# Altium integrated library Resistor - Current Sense.IntLib: 810 symbols (part 1 of 12)
Pins are listed as number, name and electrical type; pins without a type are passive.

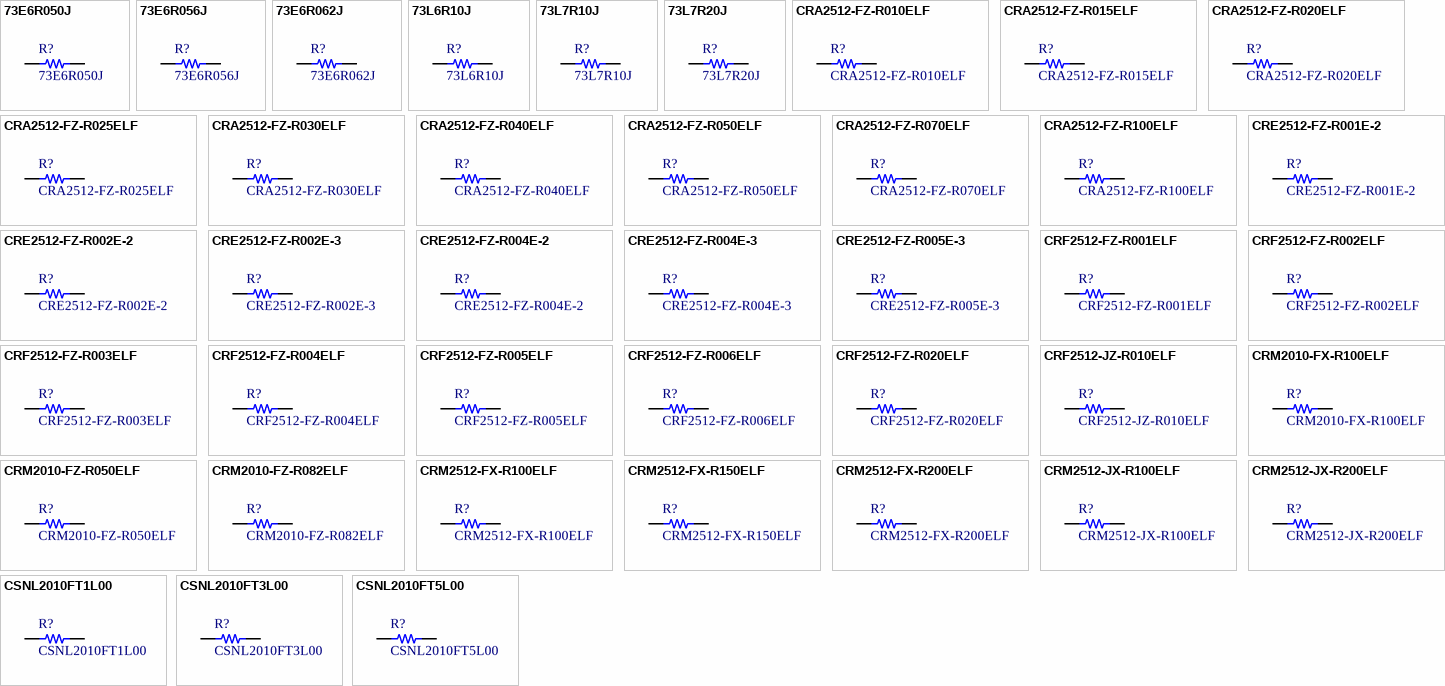
[diagram p0: symbols 73E6R050J to CSNL2010FT5L00]

## 73E6R050J
designator R?
RES SMD 0.05 OHM 5% 1W 2010; Manufacturer: CTS Resistor Products; Value: 0.05; TemperatureRange: -55C ~ 125C; TemperatureCoefficient: 100ppm/C; Part Number: 73E6R050J; PartId: 21533; Supplier 1: Digi-Key; Supplier Part Number 1: 73E6R050JTR-ND; ComponentLink1Description: Datasheet; ComponentLink1URL: http://www.ctscorp.com/wp-content/uploads/2015/11/008-0337-0.pdf; ComponentLink2Description: Digi-Key Listing; ComponentLink2URL: https://www.digikey.com/product-detail/en/cts-resistor-products/73E6R050J/73E6R050JTR-ND/1543434; Tolerance: 5%; PowerRating: 1W; Price: 0.1247; Device Package: 2010 (5025 Metric)
footprint STACKPOLE CSR2010
pins: 1, 2

## 73E6R056J
designator R?
RES SMD 0.056 OHM 5% 1W 2010; Manufacturer: CTS Resistor Products; Value: 0.056; TemperatureRange: -55C ~ 125C; TemperatureCoefficient: 100ppm/C; Part Number: 73E6R056J; PartId: 21535; Supplier 1: Digi-Key; Supplier Part Number 1: 73E6R056JTR-ND; ComponentLink1Description: Datasheet; ComponentLink1URL: http://www.ctscorp.com/wp-content/uploads/2015/11/008-0337-0.pdf; ComponentLink2Description: Digi-Key Listing; ComponentLink2URL: https://www.digikey.com/product-detail/en/cts-resistor-products/73E6R056J/73E6R056JTR-ND/1543435; Tolerance: 5%; PowerRating: 1W; Price: 0.1247; Device Package: 2010 (5025 Metric)
footprint STACKPOLE CSR2010
pins: 1, 2

## 73E6R062J
designator R?
RES SMD 0.062 OHM 5% 1W 2010; Manufacturer: CTS Resistor Products; Value: 0.062; TemperatureRange: -55C ~ 125C; TemperatureCoefficient: 100ppm/C; Part Number: 73E6R062J; PartId: 21534; Supplier 1: Digi-Key; Supplier Part Number 1: 73E6R062JTR-ND; ComponentLink1Description: Datasheet; ComponentLink1URL: http://www.ctscorp.com/wp-content/uploads/2015/11/008-0337-0.pdf; ComponentLink2Description: Digi-Key Listing; ComponentLink2URL: https://www.digikey.com/product-detail/en/cts-resistor-products/73E6R062J/73E6R062JTR-ND/1543436; Tolerance: 5%; PowerRating: 1W; Price: 0.1247; Device Package: 2010 (5025 Metric)
footprint STACKPOLE CSR2010
pins: 1, 2

## 73L6R10J
designator R?
RES SMD 0.1 OHM 5% 3/4W 2010; Manufacturer: CTS Resistor Products; Value: 0.1; TemperatureRange: -55C ~ 125C; TemperatureCoefficient: 200ppm/C; PowerRating: 0.75W, 3/4W; Part Number: 73L6R10J; PartId: 21519; Supplier 1: Digi-Key; Supplier Part Number 1: 73L6R10JTR-ND; ComponentLink1Description: Datasheet; ComponentLink1URL: http://www.ctscorp.com/wp-content/uploads/2015/11/008-0337-0.pdf; ComponentLink2Description: Digi-Key Listing; ComponentLink2URL: https://www.digikey.com/product-detail/en/cts-resistor-products/73L6R10J/73L6R10JTR-ND/1543447; Tolerance: 5%; Price: 0.0326; Device Package: 2010 (5025 Metric)
footprint STACKPOLE CSR2010
pins: 1, 2

## 73L7R10J
designator R?
RES SMD 0.1 OHM 5% 1W 2512; Manufacturer: CTS Resistor Products; Value: 0.1; TemperatureRange: -55C ~ 125C; TemperatureCoefficient: 200ppm/C; Part Number: 73L7R10J; PartId: 21208; Supplier 1: Digi-Key; Supplier Part Number 1: 73L7R10JTR-ND; ComponentLink1Description: Datasheet; ComponentLink1URL: http://www.ctscorp.com/wp-content/uploads/2015/11/008-0337-0.pdf; ComponentLink2Description: Digi-Key Listing; ComponentLink2URL: https://www.digikey.com/product-detail/en/cts-resistor-products/73L7R10J/73L7R10JTR-ND/1543442; Tolerance: 5%; PowerRating: 1W; Price: 0.0589; Device Package: 2512 (6432 Metric)
footprint STACKPOLE CSR2512
pins: 1, 2

## 73L7R20J
designator R?
RES SMD 0.2 OHM 5% 1W 2512; Manufacturer: CTS Resistor Products; Value: 0.2; TemperatureRange: -55C ~ 125C; TemperatureCoefficient: 200ppm/C; Part Number: 73L7R20J; PartId: 21209; Supplier 1: Digi-Key; Supplier Part Number 1: 73L7R20JTR-ND; ComponentLink1Description: Datasheet; ComponentLink1URL: http://www.ctscorp.com/wp-content/uploads/2015/11/008-0337-0.pdf; ComponentLink2Description: Digi-Key Listing; ComponentLink2URL: https://www.digikey.com/product-detail/en/cts-resistor-products/73L7R20J/73L7R20JTR-ND/1543443; Tolerance: 5%; PowerRating: 1W; Price: 0.0589; Device Package: 2512 (6432 Metric)
footprint STACKPOLE CSR2512
pins: 1, 2

## CRA2512-FZ-R010ELF
designator R?
RES SMD 0.01 OHM 1% 3W 2512; Manufacturer: Bourns Inc.; Value: 0.01; TemperatureRange: -55C ~ 170C; TemperatureCoefficient: 75ppm/C; Part Number: CRA2512-FZ-R010ELF; PartId: 21351; Supplier 1: Digi-Key; Supplier Part Number 1: CRA2512-FZ-R010ELFTR-ND; ComponentLink1Description: Datasheet; ComponentLink1URL: http://www.bourns.com/docs/Product-Datasheets/CRA.pdf; ComponentLink2Description: Digi-Key Listing; ComponentLink2URL: https://www.digikey.com/product-detail/en/bourns-inc/CRA2512-FZ-R010ELF/CRA2512-FZ-R010ELFTR-ND/1775029; Tolerance: 1%; PowerRating: 3W; Price: 0.1729; Device Package: 2512 (6432 Metric)
footprint STACKPOLE CSR2512
pins: 1, 2

## CRA2512-FZ-R015ELF
designator R?
RES SMD 0.015 OHM 1% 3W 2512; Manufacturer: Bourns Inc.; Value: 0.015; TemperatureRange: -55C ~ 170C; TemperatureCoefficient: 75ppm/C; Part Number: CRA2512-FZ-R015ELF; PartId: 21358; Supplier 1: Digi-Key; Supplier Part Number 1: CRA2512-FZ-R015ELFTR-ND; ComponentLink1Description: Datasheet; ComponentLink1URL: http://www.bourns.com/docs/Product-Datasheets/CRA.pdf; ComponentLink2Description: Digi-Key Listing; ComponentLink2URL: https://www.digikey.com/product-detail/en/bourns-inc/CRA2512-FZ-R015ELF/CRA2512-FZ-R015ELFTR-ND/2563864; Tolerance: 1%; PowerRating: 3W; Price: 0.1729; Device Package: 2512 (6432 Metric)
footprint STACKPOLE CSR2512
pins: 1, 2

## CRA2512-FZ-R020ELF
designator R?
RES SMD 0.02 OHM 1% 3W 2512; Manufacturer: Bourns Inc.; Value: 0.02; TemperatureRange: -55C ~ 170C; TemperatureCoefficient: 75ppm/C; Part Number: CRA2512-FZ-R020ELF; PartId: 21354; Supplier 1: Digi-Key; Supplier Part Number 1: CRA2512-FZ-R020ELFTR-ND; ComponentLink1Description: Datasheet; ComponentLink1URL: http://www.bourns.com/docs/Product-Datasheets/CRA.pdf; ComponentLink2Description: Digi-Key Listing; ComponentLink2URL: https://www.digikey.com/product-detail/en/bourns-inc/CRA2512-FZ-R020ELF/CRA2512-FZ-R020ELFTR-ND/1775030; Tolerance: 1%; PowerRating: 3W; Price: 0.1729; Device Package: 2512 (6432 Metric)
footprint STACKPOLE CSR2512
pins: 1, 2

## CRA2512-FZ-R025ELF
designator R?
RES SMD 0.025 OHM 1% 3W 2512; Manufacturer: Bourns Inc.; Value: 0.025; TemperatureRange: -55C ~ 170C; TemperatureCoefficient: 75ppm/C; Part Number: CRA2512-FZ-R025ELF; PartId: 21350; Supplier 1: Digi-Key; Supplier Part Number 1: CRA2512-FZ-R025ELFTR-ND; ComponentLink1Description: Datasheet; ComponentLink1URL: http://www.bourns.com/docs/Product-Datasheets/CRA.pdf; ComponentLink2Description: Digi-Key Listing; ComponentLink2URL: https://www.digikey.com/product-detail/en/bourns-inc/CRA2512-FZ-R025ELF/CRA2512-FZ-R025ELFTR-ND/2563866; Tolerance: 1%; PowerRating: 3W; Price: 0.1729; Device Package: 2512 (6432 Metric)
footprint STACKPOLE CSR2512
pins: 1, 2

## CRA2512-FZ-R030ELF
designator R?
RES SMD 0.03 OHM 1% 3W 2512; Manufacturer: Bourns Inc.; Value: 0.03; TemperatureRange: -55C ~ 170C; TemperatureCoefficient: 75ppm/C; Part Number: CRA2512-FZ-R030ELF; PartId: 21352; Supplier 1: Digi-Key; Supplier Part Number 1: CRA2512-FZ-R030ELFTR-ND; ComponentLink1Description: Datasheet; ComponentLink1URL: http://www.bourns.com/docs/Product-Datasheets/CRA.pdf; ComponentLink2Description: Digi-Key Listing; ComponentLink2URL: https://www.digikey.com/product-detail/en/bourns-inc/CRA2512-FZ-R030ELF/CRA2512-FZ-R030ELFTR-ND/2563867; Tolerance: 1%; PowerRating: 3W; Price: 0.1729; Device Package: 2512 (6432 Metric)
footprint STACKPOLE CSR2512
pins: 1, 2

## CRA2512-FZ-R040ELF
designator R?
RES SMD 0.04 OHM 1% 3W 2512; Manufacturer: Bourns Inc.; Value: 0.04; TemperatureRange: -55C ~ 170C; TemperatureCoefficient: 75ppm/C; Part Number: CRA2512-FZ-R040ELF; PartId: 21353; Supplier 1: Digi-Key; Supplier Part Number 1: CRA2512-FZ-R040ELFTR-ND; ComponentLink1Description: Datasheet; ComponentLink1URL: http://www.bourns.com/docs/Product-Datasheets/CRA.pdf; ComponentLink2Description: Digi-Key Listing; ComponentLink2URL: https://www.digikey.com/product-detail/en/bourns-inc/CRA2512-FZ-R040ELF/CRA2512-FZ-R040ELFTR-ND/1775031; Tolerance: 1%; PowerRating: 3W; Price: 0.1729; Device Package: 2512 (6432 Metric)
footprint STACKPOLE CSR2512
pins: 1, 2

## CRA2512-FZ-R050ELF
designator R?
RES SMD 0.05 OHM 1% 3W 2512; Manufacturer: Bourns Inc.; Value: 0.05; TemperatureRange: -55C ~ 170C; TemperatureCoefficient: 75ppm/C; Part Number: CRA2512-FZ-R050ELF; PartId: 21348; Supplier 1: Digi-Key; Supplier Part Number 1: CRA2512-FZ-R050ELFTR-ND; ComponentLink1Description: Datasheet; ComponentLink1URL: http://www.bourns.com/docs/Product-Datasheets/CRA.pdf; ComponentLink2Description: Digi-Key Listing; ComponentLink2URL: https://www.digikey.com/product-detail/en/bourns-inc/CRA2512-FZ-R050ELF/CRA2512-FZ-R050ELFTR-ND/1775032; Tolerance: 1%; PowerRating: 3W; Price: 0.1729; Device Package: 2512 (6432 Metric)
footprint STACKPOLE CSR2512
pins: 1, 2

## CRA2512-FZ-R070ELF
designator R?
RES SMD 0.07 OHM 1% 3W 2512; Manufacturer: Bourns Inc.; Value: 0.07; TemperatureRange: -55C ~ 170C; TemperatureCoefficient: 75ppm/C; Part Number: CRA2512-FZ-R070ELF; PartId: 21355; Supplier 1: Digi-Key; Supplier Part Number 1: CRA2512-FZ-R070ELFTR-ND; ComponentLink1Description: Datasheet; ComponentLink1URL: http://www.bourns.com/docs/Product-Datasheets/CRA.pdf; ComponentLink2Description: Digi-Key Listing; ComponentLink2URL: https://www.digikey.com/product-detail/en/bourns-inc/CRA2512-FZ-R070ELF/CRA2512-FZ-R070ELFTR-ND/2563873; Tolerance: 1%; PowerRating: 3W; Price: 0.1729; Device Package: 2512 (6432 Metric)
footprint STACKPOLE CSR2512
pins: 1, 2

## CRA2512-FZ-R100ELF
designator R?
RES SMD 0.1 OHM 1% 3W 2512; Manufacturer: Bourns Inc.; Value: 0.1; TemperatureRange: -55C ~ 170C; TemperatureCoefficient: 75ppm/C; Part Number: CRA2512-FZ-R100ELF; PartId: 21349; Supplier 1: Digi-Key; Supplier Part Number 1: CRA2512-FZ-R100ELFTR-ND; ComponentLink1Description: Datasheet; ComponentLink1URL: http://www.bourns.com/docs/Product-Datasheets/CRA.pdf; ComponentLink2Description: Digi-Key Listing; ComponentLink2URL: https://www.digikey.com/product-detail/en/bourns-inc/CRA2512-FZ-R100ELF/CRA2512-FZ-R100ELFTR-ND/1775034; Tolerance: 1%; PowerRating: 3W; Price: 0.1729; Device Package: 2512 (6432 Metric)
footprint STACKPOLE CSR2512
pins: 1, 2

## CRE2512-FZ-R001E-2
designator R?
RES SMD 0.001 OHM 1% 2W 2512; Manufacturer: Bourns Inc.; Value: 0.001; TemperatureRange: -55C ~ 170C; TemperatureCoefficient: 75ppm/C; Part Number: CRE2512-FZ-R001E-2; PartId: 21366; Supplier 1: Digi-Key; Supplier Part Number 1: CRE2512-FZ-R001E-2TR-ND; ComponentLink1Description: Datasheet; ComponentLink1URL: http://www.bourns.com/docs/Product-Datasheets/CRE.pdf; ComponentLink2Description: Digi-Key Listing; ComponentLink2URL: https://www.digikey.com/product-detail/en/bourns-inc/CRE2512-FZ-R001E-2/CRE2512-FZ-R001E-2TR-ND/4900070; Tolerance: 1%; PowerRating: 2W; Price: 0.1729; Device Package: 2512 (6432 Metric)
footprint STACKPOLE CSR2512
pins: 1, 2

## CRE2512-FZ-R002E-2
designator R?
RES SMD 0.002 OHM 1% 2W 2512; Manufacturer: Bourns Inc.; Value: 0.002; TemperatureRange: -55C ~ 170C; TemperatureCoefficient: 75ppm/C; Part Number: CRE2512-FZ-R002E-2; PartId: 21367; Supplier 1: Digi-Key; Supplier Part Number 1: CRE2512-FZ-R002E-2TR-ND; ComponentLink1Description: Datasheet; ComponentLink1URL: http://www.bourns.com/docs/Product-Datasheets/CRE.pdf; ComponentLink2Description: Digi-Key Listing; ComponentLink2URL: https://www.digikey.com/product-detail/en/bourns-inc/CRE2512-FZ-R002E-2/CRE2512-FZ-R002E-2TR-ND/4900068; Tolerance: 1%; PowerRating: 2W; Price: 0.1729; Device Package: 2512 (6432 Metric)
footprint STACKPOLE CSR2512
pins: 1, 2

## CRE2512-FZ-R002E-3
designator R?
RES SMD 0.002 OHM 1% 3W 2512; Manufacturer: Bourns Inc.; Value: 0.002; TemperatureRange: -55C ~ 170C; TemperatureCoefficient: 75ppm/C; Part Number: CRE2512-FZ-R002E-3; PartId: 21395; Supplier 1: Digi-Key; Supplier Part Number 1: CRE2512-FZ-R002E-3TR-ND; ComponentLink1Description: Datasheet; ComponentLink1URL: http://www.bourns.com/docs/Product-Datasheets/CRE.pdf; ComponentLink2Description: Digi-Key Listing; ComponentLink2URL: https://www.digikey.com/product-detail/en/bourns-inc/CRE2512-FZ-R002E-3/CRE2512-FZ-R002E-3TR-ND/4900067; Tolerance: 1%; PowerRating: 3W; Price: 0.1795; Device Package: 2512 (6432 Metric)
footprint STACKPOLE CSR2512
pins: 1, 2

## CRE2512-FZ-R004E-2
designator R?
RES SMD 0.004 OHM 1% 2W 2512; Manufacturer: Bourns Inc.; Value: 0.004; TemperatureRange: -55C ~ 170C; TemperatureCoefficient: 75ppm/C; Part Number: CRE2512-FZ-R004E-2; PartId: 21368; Supplier 1: Digi-Key; Supplier Part Number 1: CRE2512-FZ-R004E-2TR-ND; ComponentLink1Description: Datasheet; ComponentLink1URL: http://www.bourns.com/docs/Product-Datasheets/CRE.pdf; ComponentLink2Description: Digi-Key Listing; ComponentLink2URL: https://www.digikey.com/product-detail/en/bourns-inc/CRE2512-FZ-R004E-2/CRE2512-FZ-R004E-2TR-ND/4900064; Tolerance: 1%; PowerRating: 2W; Price: 0.1729; Device Package: 2512 (6432 Metric)
footprint STACKPOLE CSR2512
pins: 1, 2

## CRE2512-FZ-R004E-3
designator R?
RES SMD 0.004 OHM 1% 3W 2512; Manufacturer: Bourns Inc.; Value: 0.004; TemperatureRange: -55C ~ 170C; TemperatureCoefficient: 75ppm/C; Part Number: CRE2512-FZ-R004E-3; PartId: 21393; Supplier 1: Digi-Key; Supplier Part Number 1: CRE2512-FZ-R004E-3TR-ND; ComponentLink1Description: Datasheet; ComponentLink1URL: http://www.bourns.com/docs/Product-Datasheets/CRE.pdf; ComponentLink2Description: Digi-Key Listing; ComponentLink2URL: https://www.digikey.com/product-detail/en/bourns-inc/CRE2512-FZ-R004E-3/CRE2512-FZ-R004E-3TR-ND/4900063; Tolerance: 1%; PowerRating: 3W; Price: 0.1795; Device Package: 2512 (6432 Metric)
footprint STACKPOLE CSR2512
pins: 1, 2

## CRE2512-FZ-R005E-3
designator R?
RES SMD 0.005 OHM 1% 3W 2512; Manufacturer: Bourns Inc.; Value: 0.005; TemperatureRange: -55C ~ 170C; TemperatureCoefficient: 75ppm/C; Part Number: CRE2512-FZ-R005E-3; PartId: 21394; Supplier 1: Digi-Key; Supplier Part Number 1: CRE2512-FZ-R005E-3TR-ND; ComponentLink1Description: Datasheet; ComponentLink1URL: http://www.bourns.com/docs/Product-Datasheets/CRE.pdf; ComponentLink2Description: Digi-Key Listing; ComponentLink2URL: https://www.digikey.com/product-detail/en/bourns-inc/CRE2512-FZ-R005E-3/CRE2512-FZ-R005E-3TR-ND/4900061; Tolerance: 1%; PowerRating: 3W; Price: 0.1795; Device Package: 2512 (6432 Metric)
footprint STACKPOLE CSR2512
pins: 1, 2

## CRF2512-FZ-R001ELF
designator R?
RES SMD 0.001 OHM 1% 2W 2512; Manufacturer: Bourns Inc.; Value: 0.001; TemperatureRange: -55C ~ 170C; TemperatureCoefficient: 50ppm/C; Part Number: CRF2512-FZ-R001ELF; PartId: 21430; Supplier 1: Digi-Key; Supplier Part Number 1: CRF2512-FZ-R001ELFTR-ND; ComponentLink1Description: Datasheet; ComponentLink1URL: http://www.bourns.com/docs/Product-Datasheets/CRF.pdf; ComponentLink2Description: Digi-Key Listing; ComponentLink2URL: https://www.digikey.com/product-detail/en/bourns-inc/CRF2512-FZ-R001ELF/CRF2512-FZ-R001ELFTR-ND/6210982; Tolerance: 1%; PowerRating: 2W; Price: 0.2584; Device Package: 2512 (6432 Metric)
footprint STACKPOLE CSR2512
pins: 1, 2

## CRF2512-FZ-R002ELF
designator R?
RES SMD 0.002 OHM 1% 2W 2512; Manufacturer: Bourns Inc.; Value: 0.002; TemperatureRange: -55C ~ 170C; TemperatureCoefficient: 50ppm/C; Part Number: CRF2512-FZ-R002ELF; PartId: 21433; Supplier 1: Digi-Key; Supplier Part Number 1: CRF2512-FZ-R002ELFTR-ND; ComponentLink1Description: Datasheet; ComponentLink1URL: http://www.bourns.com/docs/Product-Datasheets/CRF.pdf; ComponentLink2Description: Digi-Key Listing; ComponentLink2URL: https://www.digikey.com/product-detail/en/bourns-inc/CRF2512-FZ-R002ELF/CRF2512-FZ-R002ELFTR-ND/6210983; Tolerance: 1%; PowerRating: 2W; Price: 0.2584; Device Package: 2512 (6432 Metric)
footprint STACKPOLE CSR2512
pins: 1, 2

## CRF2512-FZ-R003ELF
designator R?
RES SMD 0.003 OHM 1% 2W 2512; Manufacturer: Bourns Inc.; Value: 0.003; TemperatureRange: -55C ~ 170C; TemperatureCoefficient: 50ppm/C; Part Number: CRF2512-FZ-R003ELF; PartId: 21431; Supplier 1: Digi-Key; Supplier Part Number 1: CRF2512-FZ-R003ELFTR-ND; ComponentLink1Description: Datasheet; ComponentLink1URL: http://www.bourns.com/docs/Product-Datasheets/CRF.pdf; ComponentLink2Description: Digi-Key Listing; ComponentLink2URL: https://www.digikey.com/product-detail/en/bourns-inc/CRF2512-FZ-R003ELF/CRF2512-FZ-R003ELFTR-ND/6210984; Tolerance: 1%; PowerRating: 2W; Price: 0.2584; Device Package: 2512 (6432 Metric)
footprint STACKPOLE CSR2512
pins: 1, 2

## CRF2512-FZ-R004ELF
designator R?
RES SMD 0.004 OHM 1% 2W 2512; Manufacturer: Bourns Inc.; Value: 0.004; TemperatureRange: -55C ~ 170C; TemperatureCoefficient: 50ppm/C; Part Number: CRF2512-FZ-R004ELF; PartId: 21432; Supplier 1: Digi-Key; Supplier Part Number 1: CRF2512-FZ-R004ELFTR-ND; ComponentLink1Description: Datasheet; ComponentLink1URL: http://www.bourns.com/docs/Product-Datasheets/CRF.pdf; ComponentLink2Description: Digi-Key Listing; ComponentLink2URL: https://www.digikey.com/product-detail/en/bourns-inc/CRF2512-FZ-R004ELF/CRF2512-FZ-R004ELFTR-ND/6210985; Tolerance: 1%; PowerRating: 2W; Price: 0.2584; Device Package: 2512 (6432 Metric)
footprint STACKPOLE CSR2512
pins: 1, 2

## CRF2512-FZ-R005ELF
designator R?
RES SMD 0.005 OHM 1% 2W 2512; Manufacturer: Bourns Inc.; Value: 0.005; TemperatureRange: -55C ~ 170C; TemperatureCoefficient: 50ppm/C; Part Number: CRF2512-FZ-R005ELF; PartId: 21434; Supplier 1: Digi-Key; Supplier Part Number 1: CRF2512-FZ-R005ELFTR-ND; ComponentLink1Description: Datasheet; ComponentLink1URL: http://www.bourns.com/docs/Product-Datasheets/CRF.pdf; ComponentLink2Description: Digi-Key Listing; ComponentLink2URL: https://www.digikey.com/product-detail/en/bourns-inc/CRF2512-FZ-R005ELF/CRF2512-FZ-R005ELFTR-ND/6210986; Tolerance: 1%; PowerRating: 2W; Price: 0.2584; Device Package: 2512 (6432 Metric)
footprint STACKPOLE CSR2512
pins: 1, 2

## CRF2512-FZ-R006ELF
designator R?
RES SMD 0.006 OHM 1% 2W 2512; Manufacturer: Bourns Inc.; Value: 0.006; TemperatureRange: -55C ~ 170C; TemperatureCoefficient: 50ppm/C; Part Number: CRF2512-FZ-R006ELF; PartId: 21435; Supplier 1: Digi-Key; Supplier Part Number 1: CRF2512-FZ-R006ELFTR-ND; ComponentLink1Description: Datasheet; ComponentLink1URL: http://www.bourns.com/docs/Product-Datasheets/CRF.pdf; ComponentLink2Description: Digi-Key Listing; ComponentLink2URL: https://www.digikey.com/product-detail/en/bourns-inc/CRF2512-FZ-R006ELF/CRF2512-FZ-R006ELFTR-ND/6210987; Tolerance: 1%; PowerRating: 2W; Price: 0.2584; Device Package: 2512 (6432 Metric)
footprint STACKPOLE CSR2512
pins: 1, 2

## CRF2512-FZ-R020ELF
designator R?
RES SMD 0.02 OHM 1% 1W 2512; Manufacturer: Bourns Inc.; Value: 0.02; TemperatureRange: -55C ~ 170C; TemperatureCoefficient: 50ppm/C; PowerRating: 2W; Part Number: CRF2512-FZ-R020ELF; PartId: 21429; Supplier 1: Digi-Key; Supplier Part Number 1: CRF2512-FZ-R020ELFTR-ND; ComponentLink1Description: Datasheet; ComponentLink1URL: http://www.bourns.com/docs/Product-Datasheets/CRF.pdf; ComponentLink2Description: Digi-Key Listing; ComponentLink2URL: https://www.digikey.com/product-detail/en/bourns-inc/CRF2512-FZ-R020ELF/CRF2512-FZ-R020ELFTR-ND/3593288; Tolerance: 1%; Price: 0.2498; Device Package: 2512 (6432 Metric)
footprint STACKPOLE CSR2512
pins: 1, 2

## CRF2512-JZ-R010ELF
designator R?
RES SMD 0.01 OHM 5% 2W 2512; Manufacturer: Bourns Inc.; Value: 0.01; TemperatureRange: -55C ~ 170C; TemperatureCoefficient: 50ppm/C; Part Number: CRF2512-JZ-R010ELF; PartId: 21404; Supplier 1: Digi-Key; Supplier Part Number 1: CRF2512-JZ-R010ELFTR-ND; ComponentLink1Description: Datasheet; ComponentLink1URL: http://www.bourns.com/docs/Product-Datasheets/CRF.pdf; ComponentLink2Description: Digi-Key Listing; ComponentLink2URL: https://www.digikey.com/product-detail/en/bourns-inc/CRF2512-JZ-R010ELF/CRF2512-JZ-R010ELFTR-ND/6210996; Tolerance: 5%; PowerRating: 2W; Price: 0.1904; Device Package: 2512 (6432 Metric)
footprint STACKPOLE CSR2512
pins: 1, 2

## CRM2010-FX-R100ELF
designator R?
RES SMD 0.1 OHM 1% 1W 2010; Manufacturer: Bourns Inc.; Value: 0.1; TemperatureRange: -55C ~ 155C; TemperatureCoefficient: 100ppm/C; Part Number: CRM2010-FX-R100ELF; PartId: 21536; Supplier 1: Digi-Key; Supplier Part Number 1: CRM2010-FX-R100ELFTR-ND; ComponentLink1Description: Datasheet; ComponentLink1URL: http://www.bourns.com/docs/Product-Datasheets/CRM0805_1206_2010.pdf; ComponentLink2Description: Digi-Key Listing; ComponentLink2URL: https://www.digikey.com/product-detail/en/bourns-inc/CRM2010-FX-R100ELF/CRM2010-FX-R100ELFTR-ND/3593218; Tolerance: 1%; PowerRating: 1W; Price: 0.1443; Device Package: 2010 (5025 Metric)
footprint STACKPOLE CSR2010
pins: 1, 2

## CRM2010-FZ-R050ELF
designator R?
RES SMD 0.05 OHM 1% 1W 2010; Manufacturer: Bourns Inc.; Value: 0.05; TemperatureRange: -55C ~ 155C; TemperatureCoefficient: 150ppm/C; Part Number: CRM2010-FZ-R050ELF; PartId: 21556; Supplier 1: Digi-Key; Supplier Part Number 1: CRM2010-FZ-R050ELFTR-ND; ComponentLink1Description: Datasheet; ComponentLink1URL: http://www.bourns.com/docs/Product-Datasheets/CRM0805_1206_2010.pdf; ComponentLink2Description: Digi-Key Listing; ComponentLink2URL: https://www.digikey.com/product-detail/en/bourns-inc/CRM2010-FZ-R050ELF/CRM2010-FZ-R050ELFTR-ND/3543253; Tolerance: 1%; PowerRating: 1W; Price: 0.1917; Device Package: 2010 (5025 Metric)
footprint STACKPOLE CSR2010
pins: 1, 2

## CRM2010-FZ-R082ELF
designator R?
RES SMD 0.082 OHM 1% 1W 2010; Manufacturer: Bourns Inc.; Value: 0.082; TemperatureRange: -55C ~ 155C; TemperatureCoefficient: 150ppm/C; Part Number: CRM2010-FZ-R082ELF; PartId: 21557; Supplier 1: Digi-Key; Supplier Part Number 1: CRM2010-FZ-R082ELFTR-ND; ComponentLink1Description: Datasheet; ComponentLink1URL: http://www.bourns.com/docs/Product-Datasheets/CRM0805_1206_2010.pdf; ComponentLink2Description: Digi-Key Listing; ComponentLink2URL: https://www.digikey.com/product-detail/en/bourns-inc/CRM2010-FZ-R082ELF/CRM2010-FZ-R082ELFTR-ND/3543254; Tolerance: 1%; PowerRating: 1W; Price: 0.1917; Device Package: 2010 (5025 Metric)
footprint STACKPOLE CSR2010
pins: 1, 2

## CRM2512-FX-R100ELF
designator R?
RES SMD 0.1 OHM 1% 2W 2512; Manufacturer: Bourns Inc.; Value: 0.1; TemperatureRange: -55C ~ 155C; TemperatureCoefficient: 100ppm/C; Part Number: CRM2512-FX-R100ELF; PartId: 21315; Supplier 1: Digi-Key; Supplier Part Number 1: CRM2512-FX-R100ELFTR-ND; ComponentLink1Description: Datasheet; ComponentLink1URL: http://www.bourns.com/docs/Product-Datasheets/CRM.pdf; ComponentLink2Description: Digi-Key Listing; ComponentLink2URL: https://www.digikey.com/product-detail/en/bourns-inc/CRM2512-FX-R100ELF/CRM2512-FX-R100ELFTR-ND/2563928; Tolerance: 1%; PowerRating: 2W; Price: 0.159; Device Package: 2512 (6432 Metric)
footprint STACKPOLE CSR2512
pins: 1, 2

## CRM2512-FX-R150ELF
designator R?
RES SMD 0.15 OHM 1% 2W 2512; Manufacturer: Bourns Inc.; Value: 0.15; TemperatureRange: -55C ~ 155C; TemperatureCoefficient: 100ppm/C; Part Number: CRM2512-FX-R150ELF; PartId: 21318; Supplier 1: Digi-Key; Supplier Part Number 1: CRM2512-FX-R150ELFTR-ND; ComponentLink1Description: Datasheet; ComponentLink1URL: http://www.bourns.com/docs/Product-Datasheets/CRM.pdf; ComponentLink2Description: Digi-Key Listing; ComponentLink2URL: https://www.digikey.com/product-detail/en/bourns-inc/CRM2512-FX-R150ELF/CRM2512-FX-R150ELFTR-ND/4698411; Tolerance: 1%; PowerRating: 2W; Price: 0.1614; Device Package: 2512 (6432 Metric)
footprint STACKPOLE CSR2512
pins: 1, 2

## CRM2512-FX-R200ELF
designator R?
RES SMD 0.2 OHM 1% 2W 2512; Manufacturer: Bourns Inc.; Value: 0.2; TemperatureRange: -55C ~ 155C; TemperatureCoefficient: 100ppm/C; Part Number: CRM2512-FX-R200ELF; PartId: 21316; Supplier 1: Digi-Key; Supplier Part Number 1: CRM2512-FX-R200ELFTR-ND; ComponentLink1Description: Datasheet; ComponentLink1URL: http://www.bourns.com/docs/Product-Datasheets/CRM.pdf; ComponentLink2Description: Digi-Key Listing; ComponentLink2URL: https://www.digikey.com/product-detail/en/bourns-inc/CRM2512-FX-R200ELF/CRM2512-FX-R200ELFTR-ND/2563929; Tolerance: 1%; PowerRating: 2W; Price: 0.159; Device Package: 2512 (6432 Metric)
footprint STACKPOLE CSR2512
pins: 1, 2

## CRM2512-JX-R100ELF
designator R?
RES SMD 0.1 OHM 5% 2W 2512; Manufacturer: Bourns Inc.; Value: 0.1; TemperatureRange: -55C ~ 155C; TemperatureCoefficient: 100ppm/C; Part Number: CRM2512-JX-R100ELF; PartId: 21228; Supplier 1: Digi-Key; Supplier Part Number 1: CRM2512-JX-R100ELFTR-ND; ComponentLink1Description: Datasheet; ComponentLink1URL: http://www.bourns.com/docs/Product-Datasheets/CRM.pdf; ComponentLink2Description: Digi-Key Listing; ComponentLink2URL: https://www.digikey.com/product-detail/en/bourns-inc/CRM2512-JX-R100ELF/CRM2512-JX-R100ELFTR-ND/2563970; Tolerance: 5%; PowerRating: 2W; Price: 0.1039; Device Package: 2512 (6432 Metric)
footprint STACKPOLE CSR2512
pins: 1, 2

## CRM2512-JX-R200ELF
designator R?
RES SMD 0.2 OHM 5% 2W 2512; Manufacturer: Bourns Inc.; Value: 0.2; TemperatureRange: -55C ~ 155C; TemperatureCoefficient: 100ppm/C; Part Number: CRM2512-JX-R200ELF; PartId: 21229; Supplier 1: Digi-Key; Supplier Part Number 1: CRM2512-JX-R200ELFTR-ND; ComponentLink1Description: Datasheet; ComponentLink1URL: http://www.bourns.com/docs/Product-Datasheets/CRM.pdf; ComponentLink2Description: Digi-Key Listing; ComponentLink2URL: https://www.digikey.com/product-detail/en/bourns-inc/CRM2512-JX-R200ELF/CRM2512-JX-R200ELFTR-ND/2563971; Tolerance: 5%; PowerRating: 2W; Price: 0.1039; Device Package: 2512 (6432 Metric)
footprint STACKPOLE CSR2512
pins: 1, 2

## CSNL2010FT1L00
designator R?
RES SMD 0.001 OHM 1% 1.5W 2010; Manufacturer: Stackpole Electronics Inc.; Value: 0.001; TemperatureRange: -55C ~ 170C; TemperatureCoefficient: 50ppm/C; Part Number: CSNL2010FT1L00; PartId: 21549; Supplier 1: Digi-Key; Supplier Part Number 1: CSNL2010FT1L00TR-ND; ComponentLink1Description: Datasheet; ComponentLink1URL: https://www.seielect.com/Catalog/SEI-csnl.pdf; ComponentLink2Description: Digi-Key Listing; ComponentLink2URL: https://www.digikey.com/product-detail/en/stackpole-electronics-inc/CSNL2010FT1L00/CSNL2010FT1L00TR-ND/1788095; Tolerance: 1%; PowerRating: 1.5W; Price: 0.1862; Device Package: 2010 (5025 Metric)
footprint STACKPOLE CSR2010
pins: 1, 2

## CSNL2010FT3L00
designator R?
RES SMD 0.003 OHM 1% 1.5W 2010; Manufacturer: Stackpole Electronics Inc.; Value: 0.003; TemperatureRange: -55C ~ 170C; TemperatureCoefficient: 50ppm/C; Part Number: CSNL2010FT3L00; PartId: 21550; Supplier 1: Digi-Key; Supplier Part Number 1: CSNL2010FT3L00TR-ND; ComponentLink1Description: Datasheet; ComponentLink1URL: https://www.seielect.com/Catalog/SEI-csnl.pdf; ComponentLink2Description: Digi-Key Listing; ComponentLink2URL: https://www.digikey.com/product-detail/en/stackpole-electronics-inc/CSNL2010FT3L00/CSNL2010FT3L00TR-ND/1788097; Tolerance: 1%; PowerRating: 1.5W; Price: 0.1862; Device Package: 2010 (5025 Metric)
footprint STACKPOLE CSR2010
pins: 1, 2

## CSNL2010FT5L00
designator R?
RES SMD 0.005 OHM 1% 1.5W 2010; Manufacturer: Stackpole Electronics Inc.; Value: 0.005; TemperatureRange: -55C ~ 170C; TemperatureCoefficient: 50ppm/C; Part Number: CSNL2010FT5L00; PartId: 21548; Supplier 1: Digi-Key; Supplier Part Number 1: CSNL2010FT5L00TR-ND; ComponentLink1Description: Datasheet; ComponentLink1URL: https://www.seielect.com/Catalog/SEI-csnl.pdf; ComponentLink2Description: Digi-Key Listing; ComponentLink2URL: https://www.digikey.com/product-detail/en/stackpole-electronics-inc/CSNL2010FT5L00/CSNL2010FT5L00TR-ND/1788098; Tolerance: 1%; PowerRating: 1.5W; Price: 0.1862; Device Package: 2010 (5025 Metric)
footprint STACKPOLE CSR2010
pins: 1, 2

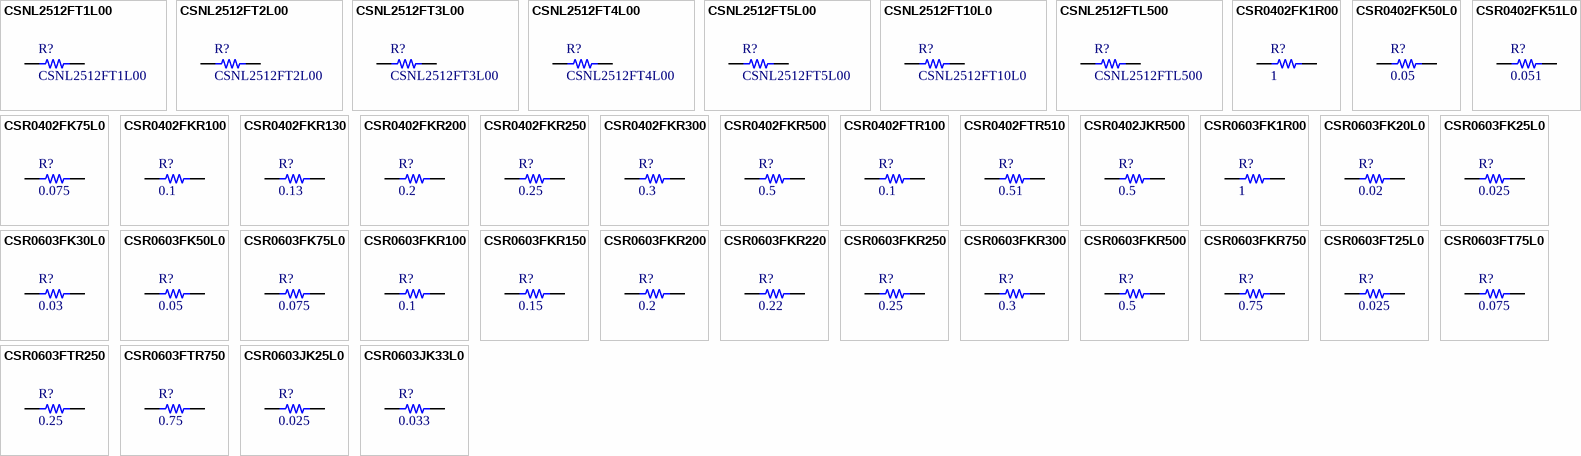
[diagram p1: symbols CSNL2512FT1L00 to CSR0603JK33L0]

## CSNL2512FT1L00
designator R?
RES SMD 0.001 OHM 1% 2W 2512; Manufacturer: Stackpole Electronics Inc.; Value: 0.001; TemperatureRange: -55C ~ 170C; TemperatureCoefficient: 50ppm/C; Part Number: CSNL2512FT1L00; PartId: 21400; Supplier 1: Digi-Key; Supplier Part Number 1: CSNL2512FT1L00TR-ND; ComponentLink1Description: Datasheet; ComponentLink1URL: https://www.seielect.com/Catalog/SEI-csnl.pdf; ComponentLink2Description: Digi-Key Listing; ComponentLink2URL: https://www.digikey.com/product-detail/en/stackpole-electronics-inc/CSNL2512FT1L00/CSNL2512FT1L00TR-ND/1646111; Tolerance: 1%; PowerRating: 2W; Price: 0.1862; Device Package: 2512 (6432 Metric)
footprint STACKPOLE CSR2512
pins: 1, 2

## CSNL2512FT2L00
designator R?
RES SMD 0.002 OHM 1% 2W 2512; Manufacturer: Stackpole Electronics Inc.; Value: 0.002; TemperatureRange: -55C ~ 170C; TemperatureCoefficient: 50ppm/C; Part Number: CSNL2512FT2L00; PartId: 21399; Supplier 1: Digi-Key; Supplier Part Number 1: CSNL2512FT2L00TR-ND; ComponentLink1Description: Datasheet; ComponentLink1URL: https://www.seielect.com/Catalog/SEI-csnl.pdf; ComponentLink2Description: Digi-Key Listing; ComponentLink2URL: https://www.digikey.com/product-detail/en/stackpole-electronics-inc/CSNL2512FT2L00/CSNL2512FT2L00TR-ND/1646112; Tolerance: 1%; PowerRating: 2W; Price: 0.1862; Device Package: 2512 (6432 Metric)
footprint STACKPOLE CSR2512
pins: 1, 2

## CSNL2512FT3L00
designator R?
RES SMD 0.003 OHM 1% 2W 2512; Manufacturer: Stackpole Electronics Inc.; Value: 0.003; TemperatureRange: -55C ~ 170C; TemperatureCoefficient: 50ppm/C; Part Number: CSNL2512FT3L00; PartId: 21398; Supplier 1: Digi-Key; Supplier Part Number 1: CSNL2512FT3L00TR-ND; ComponentLink1Description: Datasheet; ComponentLink1URL: https://www.seielect.com/Catalog/SEI-csnl.pdf; ComponentLink2Description: Digi-Key Listing; ComponentLink2URL: https://www.digikey.com/product-detail/en/stackpole-electronics-inc/CSNL2512FT3L00/CSNL2512FT3L00TR-ND/1646113; Tolerance: 1%; PowerRating: 2W; Price: 0.1862; Device Package: 2512 (6432 Metric)
footprint STACKPOLE CSR2512
pins: 1, 2

## CSNL2512FT4L00
designator R?
RES SMD 0.004 OHM 1% 2W 2512; Manufacturer: Stackpole Electronics Inc.; Value: 0.004; TemperatureRange: -55C ~ 170C; TemperatureCoefficient: 50ppm/C; Part Number: CSNL2512FT4L00; PartId: 21396; Supplier 1: Digi-Key; Supplier Part Number 1: CSNL2512FT4L00TR-ND; ComponentLink1Description: Datasheet; ComponentLink1URL: https://www.seielect.com/Catalog/SEI-csnl.pdf; ComponentLink2Description: Digi-Key Listing; ComponentLink2URL: https://www.digikey.com/product-detail/en/stackpole-electronics-inc/CSNL2512FT4L00/CSNL2512FT4L00TR-ND/1646114; Tolerance: 1%; PowerRating: 2W; Price: 0.1862; Device Package: 2512 (6432 Metric)
footprint STACKPOLE CSR2512
pins: 1, 2

## CSNL2512FT5L00
designator R?
RES SMD 0.005 OHM 1% 2W 2512; Manufacturer: Stackpole Electronics Inc.; Value: 0.005; TemperatureRange: -55C ~ 170C; TemperatureCoefficient: 50ppm/C; Part Number: CSNL2512FT5L00; PartId: 21397; Supplier 1: Digi-Key; Supplier Part Number 1: CSNL2512FT5L00TR-ND; ComponentLink1Description: Datasheet; ComponentLink1URL: https://www.seielect.com/Catalog/SEI-csnl.pdf; ComponentLink2Description: Digi-Key Listing; ComponentLink2URL: https://www.digikey.com/product-detail/en/stackpole-electronics-inc/CSNL2512FT5L00/CSNL2512FT5L00TR-ND/1646115; Tolerance: 1%; PowerRating: 2W; Price: 0.1862; Device Package: 2512 (6432 Metric)
footprint STACKPOLE CSR2512
pins: 1, 2

## CSNL2512FT10L0
designator R?
RES SMD 0.01 OHM 1% 2W 2512; Manufacturer: Stackpole Electronics Inc.; Value: 0.01; TemperatureRange: -55C ~ 170C; TemperatureCoefficient: 50ppm/C; Part Number: CSNL2512FT10L0; PartId: 21412; Supplier 1: Digi-Key; Supplier Part Number 1: CSNL2512FT10L0TR-ND; ComponentLink1Description: Datasheet; ComponentLink1URL: https://www.seielect.com/Catalog/SEI-csnl.pdf; ComponentLink2Description: Digi-Key Listing; ComponentLink2URL: https://www.digikey.com/product-detail/en/stackpole-electronics-inc/CSNL2512FT10L0/CSNL2512FT10L0TR-ND/5226370; Tolerance: 1%; PowerRating: 2W; Price: 0.1995; Device Package: 2512 (6432 Metric)
footprint STACKPOLE CSR2512
pins: 1, 2

## CSNL2512FTL500
designator R?
RES SMD 0.0005 OHM 1% 2W 2512; Manufacturer: Stackpole Electronics Inc.; Value: 0.0005; TemperatureRange: -55C ~ 170C; TemperatureCoefficient: 50ppm/C; Part Number: CSNL2512FTL500; PartId: 21422; Supplier 1: Digi-Key; Supplier Part Number 1: CSNL2512FTL500TR-ND; ComponentLink1Description: Datasheet; ComponentLink1URL: https://www.seielect.com/Catalog/SEI-csnl.pdf; ComponentLink2Description: Digi-Key Listing; ComponentLink2URL: https://www.digikey.com/product-detail/en/stackpole-electronics-inc/CSNL2512FTL500/CSNL2512FTL500TR-ND/1788105; Tolerance: 1%; PowerRating: 2W; Price: 0.2261; Device Package: 2512 (6432 Metric)
footprint STACKPOLE CSR2512
pins: 1, 2

## CSR0402FK1R00
designator R?, comment 1
RES SMD 1 OHM 1% 1/8W 0402; Part Number: CSR0402FK1R00; Manufacturer: Stackpole Electronics Inc.; TemperatureRange: -55C ~ 155C; TemperatureCoefficient: 200ppm/C; PowerRating: 0.125W, 1/8W; Value: 1; PartId: 9835; Supplier 1: Digi-Key; Supplier Part Number 1: CSR0402FK1R00TR-ND; ComponentLink1Description: Datasheet; ComponentLink1URL: http://www.seielect.com/catalog/SEI-CSR_CSRN.pdf; ComponentLink2Description: Digi-Key Listing; ComponentLink2URL: https://www.digikey.com/product-detail/en/stackpole-electronics-inc/CSR0402FK1R00/CSR0402FK1R00TR-ND/1742501; Tolerance: 1%; Price: 0.036; Device Package: 0402 (1005 Metric)
footprint STACKPOLE CSR0402
pins: 1, 2

## CSR0402FK50L0
designator R?, comment 0.05
RES SMD 0.05 OHM 1% 1/8W 0402; Part Number: CSR0402FK50L0; Manufacturer: Stackpole Electronics Inc.; TemperatureRange: -55C ~ 155C; TemperatureCoefficient: 200ppm/C; PowerRating: 0.125W, 1/8W; Value: 0.05; PartId: 9834; Supplier 1: Digi-Key; Supplier Part Number 1: CSR0402FK50L0TR-ND; ComponentLink1Description: Datasheet; ComponentLink1URL: http://www.seielect.com/catalog/SEI-CSR_CSRN.pdf; ComponentLink2Description: Digi-Key Listing; ComponentLink2URL: https://www.digikey.com/product-detail/en/stackpole-electronics-inc/CSR0402FK50L0/CSR0402FK50L0TR-ND/5251277; Tolerance: 1%; Price: 0.08; Device Package: 0402 (1005 Metric)
footprint STACKPOLE CSR0402
pins: 1, 2

## CSR0402FK51L0
designator R?, comment 0.051
RES SMD 0.051 OHM 1% 1/8W 0402; Part Number: CSR0402FK51L0; Manufacturer: Stackpole Electronics Inc.; TemperatureRange: -55C ~ 155C; TemperatureCoefficient: 200ppm/C; PowerRating: 0.125W, 1/8W; Value: 0.051; PartId: 9843; Supplier 1: Digi-Key; Supplier Part Number 1: CSR0402FK51L0-ND; ComponentLink1Description: Datasheet; ComponentLink1URL: http://www.seielect.com/catalog/SEI-CSR_CSRN.pdf; ComponentLink2Description: Digi-Key Listing; ComponentLink2URL: https://www.digikey.com/product-detail/en/stackpole-electronics-inc/CSR0402FK51L0/CSR0402FK51L0-ND/1742495; Tolerance: 1%; Price: 0.08; Device Package: 0402 (1005 Metric)
footprint STACKPOLE CSR0402
pins: 1, 2

## CSR0402FK75L0
designator R?, comment 0.075
RES SMD 0.075 OHM 1% 1/8W 0402; Part Number: CSR0402FK75L0; Manufacturer: Stackpole Electronics Inc.; TemperatureRange: -55C ~ 155C; TemperatureCoefficient: 200ppm/C; PowerRating: 0.125W, 1/8W; Value: 0.075; PartId: 9833; Supplier 1: Digi-Key; Supplier Part Number 1: CSR0402FK75L0TR-ND; ComponentLink1Description: Datasheet; ComponentLink1URL: http://www.seielect.com/catalog/SEI-CSR_CSRN.pdf; ComponentLink2Description: Digi-Key Listing; ComponentLink2URL: https://www.digikey.com/product-detail/en/stackpole-electronics-inc/CSR0402FK75L0/CSR0402FK75L0TR-ND/5251278; Tolerance: 1%; Price: 0.08; Device Package: 0402 (1005 Metric)
footprint STACKPOLE CSR0402
pins: 1, 2

## CSR0402FKR100
designator R?, comment 0.1
RES SMD 0.1 OHM 1% 1/8W 0402; Part Number: CSR0402FKR100; Manufacturer: Stackpole Electronics Inc.; TemperatureRange: -55C ~ 155C; TemperatureCoefficient: 200ppm/C; PowerRating: 0.125W, 1/8W; Value: 0.1; PartId: 9838; Supplier 1: Digi-Key; Supplier Part Number 1: CSR0402FKR100TR-ND; ComponentLink1Description: Datasheet; ComponentLink1URL: http://www.seielect.com/catalog/SEI-CSR_CSRN.pdf; ComponentLink2Description: Digi-Key Listing; ComponentLink2URL: https://www.digikey.com/product-detail/en/stackpole-electronics-inc/CSR0402FKR100/CSR0402FKR100TR-ND/1742496; Tolerance: 1%; Price: 0.064; Device Package: 0402 (1005 Metric)
footprint STACKPOLE CSR0402
pins: 1, 2

## CSR0402FKR130
designator R?, comment 0.13
RES SMD 0.13 OHM 1% 1/8W 0402; Part Number: CSR0402FKR130; Manufacturer: Stackpole Electronics Inc.; TemperatureRange: -55C ~ 155C; TemperatureCoefficient: 200ppm/C; PowerRating: 0.125W, 1/8W; Value: 0.13; PartId: 9841; Supplier 1: Digi-Key; Supplier Part Number 1: CSR0402FKR130-ND; ComponentLink1Description: Datasheet; ComponentLink1URL: http://www.seielect.com/catalog/SEI-CSR_CSRN.pdf; ComponentLink2Description: Digi-Key Listing; ComponentLink2URL: https://www.digikey.com/product-detail/en/stackpole-electronics-inc/CSR0402FKR130/CSR0402FKR130-ND/1742498; Tolerance: 1%; Price: 0.036; Device Package: 0402 (1005 Metric)
footprint STACKPOLE CSR0402
pins: 1, 2

## CSR0402FKR200
designator R?, comment 0.2
RES SMD 0.2 OHM 1% 1/8W 0402; Part Number: CSR0402FKR200; Manufacturer: Stackpole Electronics Inc.; TemperatureRange: -55C ~ 155C; TemperatureCoefficient: 200ppm/C; PowerRating: 0.125W, 1/8W; Value: 0.2; PartId: 9832; Supplier 1: Digi-Key; Supplier Part Number 1: CSR0402FKR200TR-ND; ComponentLink1Description: Datasheet; ComponentLink1URL: http://www.seielect.com/catalog/SEI-CSR_CSRN.pdf; ComponentLink2Description: Digi-Key Listing; ComponentLink2URL: https://www.digikey.com/product-detail/en/stackpole-electronics-inc/CSR0402FKR200/CSR0402FKR200TR-ND/5251279; Tolerance: 1%; Price: 0.064; Device Package: 0402 (1005 Metric)
footprint STACKPOLE CSR0402
pins: 1, 2

## CSR0402FKR250
designator R?, comment 0.25
RES SMD 0.25 OHM 1% 1/8W 0402; Part Number: CSR0402FKR250; Manufacturer: Stackpole Electronics Inc.; TemperatureRange: -55C ~ 155C; TemperatureCoefficient: 200ppm/C; PowerRating: 0.125W, 1/8W; Value: 0.25; PartId: 9836; Supplier 1: Digi-Key; Supplier Part Number 1: CSR0402FKR250TR-ND; ComponentLink1Description: Datasheet; ComponentLink1URL: http://www.seielect.com/catalog/SEI-CSR_CSRN.pdf; ComponentLink2Description: Digi-Key Listing; ComponentLink2URL: https://www.digikey.com/product-detail/en/stackpole-electronics-inc/CSR0402FKR250/CSR0402FKR250TR-ND/5251280; Tolerance: 1%; Price: 0.064; Device Package: 0402 (1005 Metric)
footprint STACKPOLE CSR0402
pins: 1, 2

## CSR0402FKR300
designator R?, comment 0.3
RES SMD 0.3 OHM 1% 1/8W 0402; Part Number: CSR0402FKR300; Manufacturer: Stackpole Electronics Inc.; TemperatureRange: -55C ~ 155C; TemperatureCoefficient: 200ppm/C; PowerRating: 0.125W, 1/8W; Value: 0.3; PartId: 9831; Supplier 1: Digi-Key; Supplier Part Number 1: CSR0402FKR300TR-ND; ComponentLink1Description: Datasheet; ComponentLink1URL: http://www.seielect.com/catalog/SEI-CSR_CSRN.pdf; ComponentLink2Description: Digi-Key Listing; ComponentLink2URL: https://www.digikey.com/product-detail/en/stackpole-electronics-inc/CSR0402FKR300/CSR0402FKR300TR-ND/5251281; Tolerance: 1%; Price: 0.064; Device Package: 0402 (1005 Metric)
footprint STACKPOLE CSR0402
pins: 1, 2

## CSR0402FKR500
designator R?, comment 0.5
RES SMD 0.5 OHM 1% 1/8W 0402; Part Number: CSR0402FKR500; Manufacturer: Stackpole Electronics Inc.; TemperatureRange: -55C ~ 155C; TemperatureCoefficient: 200ppm/C; PowerRating: 0.125W, 1/8W; Value: 0.5; PartId: 9837; Supplier 1: Digi-Key; Supplier Part Number 1: CSR0402FKR500TR-ND; ComponentLink1Description: Datasheet; ComponentLink1URL: http://www.seielect.com/catalog/SEI-CSR_CSRN.pdf; ComponentLink2Description: Digi-Key Listing; ComponentLink2URL: https://www.digikey.com/product-detail/en/stackpole-electronics-inc/CSR0402FKR500/CSR0402FKR500TR-ND/5251282; Tolerance: 1%; Price: 0.036; Device Package: 0402 (1005 Metric)
footprint STACKPOLE CSR0402
pins: 1, 2

## CSR0402FTR100
designator R?, comment 0.1
RES SMD 0.1 OHM 1% 1/8W 0402; Part Number: CSR0402FTR100; Manufacturer: Stackpole Electronics Inc.; TemperatureRange: -55C ~ 155C; TemperatureCoefficient: 200ppm/C; PowerRating: 0.125W, 1/8W; Value: 0.1; PartId: 9842; Supplier 1: Digi-Key; Supplier Part Number 1: CSR0402FTR100-ND; ComponentLink1Description: Datasheet; ComponentLink1URL: http://www.seielect.com/catalog/SEI-CSR_CSRN.pdf; ComponentLink2Description: Digi-Key Listing; ComponentLink2URL: https://www.digikey.com/product-detail/en/stackpole-electronics-inc/CSR0402FTR100/CSR0402FTR100-ND/1742497; Tolerance: 1%; Price: 0.066; Device Package: 0402 (1005 Metric)
footprint STACKPOLE CSR0402
pins: 1, 2

## CSR0402FTR510
designator R?, comment 0.51
RES SMD 0.51 OHM 1% 1/8W 0402; Part Number: CSR0402FTR510; Manufacturer: Stackpole Electronics Inc.; TemperatureRange: -55C ~ 155C; TemperatureCoefficient: 200ppm/C; PowerRating: 0.125W, 1/8W; Value: 0.51; PartId: 9840; Supplier 1: Digi-Key; Supplier Part Number 1: CSR0402FTR510-ND; ComponentLink1Description: Datasheet; ComponentLink1URL: http://www.seielect.com/catalog/SEI-CSR_CSRN.pdf; ComponentLink2Description: Digi-Key Listing; ComponentLink2URL: https://www.digikey.com/product-detail/en/stackpole-electronics-inc/CSR0402FTR510/CSR0402FTR510-ND/1742500; Tolerance: 1%; Price: 0.028; Device Package: 0402 (1005 Metric)
footprint STACKPOLE CSR0402
pins: 1, 2

## CSR0402JKR500
designator R?, comment 0.5
RES SMD 0.5 OHM 5% 1/8W 0402; Part Number: CSR0402JKR500; Manufacturer: Stackpole Electronics Inc.; TemperatureRange: -55C ~ 155C; TemperatureCoefficient: 200ppm/C; PowerRating: 0.125W, 1/8W; Value: 0.5; PartId: 9839; Supplier 1: Digi-Key; Supplier Part Number 1: CSR0402JKR500-ND; ComponentLink1Description: Datasheet; ComponentLink1URL: http://www.seielect.com/catalog/SEI-CSR_CSRN.pdf; ComponentLink2Description: Digi-Key Listing; ComponentLink2URL: https://www.digikey.com/product-detail/en/stackpole-electronics-inc/CSR0402JKR500/CSR0402JKR500-ND/1742499; Tolerance: 5%; Price: 0.027; Device Package: 0402 (1005 Metric)
footprint STACKPOLE CSR0402
pins: 1, 2

## CSR0603FK1R00
designator R?, comment 1
RES SMD 1 OHM 1% 1/8W 0603; Part Number: CSR0603FK1R00; Manufacturer: Stackpole Electronics Inc.; TemperatureRange: -55C ~ 155C; TemperatureCoefficient: 300ppm/C; PowerRating: 0.125W, 1/8W; Value: 1; PartId: 9854; Supplier 1: Digi-Key; Supplier Part Number 1: CSR0603FK1R00TR-ND; ComponentLink1Description: Datasheet; ComponentLink1URL: http://www.seielect.com/catalog/SEI-CSR_CSRN.pdf; ComponentLink2Description: Digi-Key Listing; ComponentLink2URL: https://www.digikey.com/product-detail/en/stackpole-electronics-inc/CSR0603FK1R00/CSR0603FK1R00TR-ND/2217462; Tolerance: 1%; Price: 0.036; Device Package: 0603 (1608 Metric)
footprint STACKPOLE CSR0603
pins: 1, 2

## CSR0603FK20L0
designator R?, comment 0.02
RES SMD 0.02 OHM 1% 1/8W 0603; Part Number: CSR0603FK20L0; Manufacturer: Stackpole Electronics Inc.; TemperatureRange: -55C ~ 155C; TemperatureCoefficient: 300ppm/C; PowerRating: 0.125W, 1/8W; Value: 0.02; PartId: 9853; Supplier 1: Digi-Key; Supplier Part Number 1: CSR0603FK20L0TR-ND; ComponentLink1Description: Datasheet; ComponentLink1URL: http://www.seielect.com/catalog/SEI-CSR_CSRN.pdf; ComponentLink2Description: Digi-Key Listing; ComponentLink2URL: https://www.digikey.com/product-detail/en/stackpole-electronics-inc/CSR0603FK20L0/CSR0603FK20L0TR-ND/1742472; Tolerance: 1%; Price: 0.112; Device Package: 0603 (1608 Metric)
footprint STACKPOLE CSR0603
pins: 1, 2

## CSR0603FK25L0
designator R?, comment 0.025
RES SMD 0.025 OHM 1% 1/8W 0603; Part Number: CSR0603FK25L0; Manufacturer: Stackpole Electronics Inc.; TemperatureRange: -55C ~ 155C; TemperatureCoefficient: 300ppm/C; PowerRating: 0.125W, 1/8W; Value: 0.025; PartId: 9849; Supplier 1: Digi-Key; Supplier Part Number 1: CSR0603FK25L0TR-ND; ComponentLink1Description: Datasheet; ComponentLink1URL: http://www.seielect.com/catalog/SEI-CSR_CSRN.pdf; ComponentLink2Description: Digi-Key Listing; ComponentLink2URL: https://www.digikey.com/product-detail/en/stackpole-electronics-inc/CSR0603FK25L0/CSR0603FK25L0TR-ND/1742473; Tolerance: 1%; Price: 0.112; Device Package: 0603 (1608 Metric)
footprint STACKPOLE CSR0603
pins: 1, 2

## CSR0603FK30L0
designator R?, comment 0.03
RES SMD 0.03 OHM 1% 1/8W 0603; Part Number: CSR0603FK30L0; Manufacturer: Stackpole Electronics Inc.; TemperatureRange: -55C ~ 155C; TemperatureCoefficient: 300ppm/C; PowerRating: 0.125W, 1/8W; Value: 0.03; PartId: 9850; Supplier 1: Digi-Key; Supplier Part Number 1: CSR0603FK30L0TR-ND; ComponentLink1Description: Datasheet; ComponentLink1URL: http://www.seielect.com/catalog/SEI-CSR_CSRN.pdf; ComponentLink2Description: Digi-Key Listing; ComponentLink2URL: https://www.digikey.com/product-detail/en/stackpole-electronics-inc/CSR0603FK30L0/CSR0603FK30L0TR-ND/2217457; Tolerance: 1%; Price: 0.112; Device Package: 0603 (1608 Metric)
footprint STACKPOLE CSR0603
pins: 1, 2

## CSR0603FK50L0
designator R?, comment 0.05
RES SMD 0.05 OHM 1% 1/8W 0603; Part Number: CSR0603FK50L0; Manufacturer: Stackpole Electronics Inc.; TemperatureRange: -55C ~ 155C; TemperatureCoefficient: 300ppm/C; PowerRating: 0.125W, 1/8W; Value: 0.05; PartId: 9848; Supplier 1: Digi-Key; Supplier Part Number 1: CSR0603FK50L0TR-ND; ComponentLink1Description: Datasheet; ComponentLink1URL: http://www.seielect.com/catalog/SEI-CSR_CSRN.pdf; ComponentLink2Description: Digi-Key Listing; ComponentLink2URL: https://www.digikey.com/product-detail/en/stackpole-electronics-inc/CSR0603FK50L0/CSR0603FK50L0TR-ND/2217458; Tolerance: 1%; Price: 0.096; Device Package: 0603 (1608 Metric)
footprint STACKPOLE CSR0603
pins: 1, 2

## CSR0603FK75L0
designator R?, comment 0.075
RES SMD 0.075 OHM 1% 1/8W 0603; Part Number: CSR0603FK75L0; Manufacturer: Stackpole Electronics Inc.; TemperatureRange: -55C ~ 155C; TemperatureCoefficient: 300ppm/C; PowerRating: 0.125W, 1/8W; Value: 0.075; PartId: 9851; Supplier 1: Digi-Key; Supplier Part Number 1: CSR0603FK75L0TR-ND; ComponentLink1Description: Datasheet; ComponentLink1URL: http://www.seielect.com/catalog/SEI-CSR_CSRN.pdf; ComponentLink2Description: Digi-Key Listing; ComponentLink2URL: https://www.digikey.com/product-detail/en/stackpole-electronics-inc/CSR0603FK75L0/CSR0603FK75L0TR-ND/1742480; Tolerance: 1%; Price: 0.096; Device Package: 0603 (1608 Metric)
footprint STACKPOLE CSR0603
pins: 1, 2

## CSR0603FKR100
designator R?, comment 0.1
RES SMD 0.1 OHM 1% 1/8W 0603; Part Number: CSR0603FKR100; Manufacturer: Stackpole Electronics Inc.; TemperatureRange: -55C ~ 155C; TemperatureCoefficient: 300ppm/C; PowerRating: 0.125W, 1/8W; Value: 0.1; PartId: 9847; Supplier 1: Digi-Key; Supplier Part Number 1: CSR0603FKR100TR-ND; ComponentLink1Description: Datasheet; ComponentLink1URL: http://www.seielect.com/catalog/SEI-CSR_CSRN.pdf; ComponentLink2Description: Digi-Key Listing; ComponentLink2URL: https://www.digikey.com/product-detail/en/stackpole-electronics-inc/CSR0603FKR100/CSR0603FKR100TR-ND/2217459; Tolerance: 1%; Price: 0.064; Device Package: 0603 (1608 Metric)
footprint STACKPOLE CSR0603
pins: 1, 2

## CSR0603FKR150
designator R?, comment 0.15
RES SMD 0.15 OHM 1% 1/8W 0603; Part Number: CSR0603FKR150; Manufacturer: Stackpole Electronics Inc.; TemperatureRange: -55C ~ 155C; TemperatureCoefficient: 300ppm/C; PowerRating: 0.125W, 1/8W; Value: 0.15; PartId: 9866; Supplier 1: Digi-Key; Supplier Part Number 1: CSR0603FKR150-ND; ComponentLink1Description: Datasheet; ComponentLink1URL: http://www.seielect.com/catalog/SEI-CSR_CSRN.pdf; ComponentLink2Description: Digi-Key Listing; ComponentLink2URL: https://www.digikey.com/product-detail/en/stackpole-electronics-inc/CSR0603FKR150/CSR0603FKR150-ND/1742483; Tolerance: 1%; Price: 0.064; Device Package: 0603 (1608 Metric)
footprint STACKPOLE CSR0603
pins: 1, 2

## CSR0603FKR200
designator R?, comment 0.2
RES SMD 0.2 OHM 1% 1/8W 0603; Part Number: CSR0603FKR200; Manufacturer: Stackpole Electronics Inc.; TemperatureRange: -55C ~ 155C; TemperatureCoefficient: 300ppm/C; PowerRating: 0.125W, 1/8W; Value: 0.2; PartId: 9845; Supplier 1: Digi-Key; Supplier Part Number 1: CSR0603FKR200TR-ND; ComponentLink1Description: Datasheet; ComponentLink1URL: http://www.seielect.com/catalog/SEI-CSR_CSRN.pdf; ComponentLink2Description: Digi-Key Listing; ComponentLink2URL: https://www.digikey.com/product-detail/en/stackpole-electronics-inc/CSR0603FKR200/CSR0603FKR200TR-ND/1742484; Tolerance: 1%; Price: 0.064; Device Package: 0603 (1608 Metric)
footprint STACKPOLE CSR0603
pins: 1, 2

## CSR0603FKR220
designator R?, comment 0.22
RES SMD 0.22 OHM 1% 1/8W 0603; Part Number: CSR0603FKR220; Manufacturer: Stackpole Electronics Inc.; TemperatureRange: -55C ~ 155C; TemperatureCoefficient: 300ppm/C; PowerRating: 0.125W, 1/8W; Value: 0.22; PartId: 9867; Supplier 1: Digi-Key; Supplier Part Number 1: CSR0603FKR220-ND; ComponentLink1Description: Datasheet; ComponentLink1URL: http://www.seielect.com/catalog/SEI-CSR_CSRN.pdf; ComponentLink2Description: Digi-Key Listing; ComponentLink2URL: https://www.digikey.com/product-detail/en/stackpole-electronics-inc/CSR0603FKR220/CSR0603FKR220-ND/1742485; Tolerance: 1%; Price: 0.064; Device Package: 0603 (1608 Metric)
footprint STACKPOLE CSR0603
pins: 1, 2

## CSR0603FKR250
designator R?, comment 0.25
RES SMD 0.25 OHM 1% 1/8W 0603; Part Number: CSR0603FKR250; Manufacturer: Stackpole Electronics Inc.; TemperatureRange: -55C ~ 155C; TemperatureCoefficient: 300ppm/C; PowerRating: 0.125W, 1/8W; Value: 0.25; PartId: 9846; Supplier 1: Digi-Key; Supplier Part Number 1: CSR0603FKR250TR-ND; ComponentLink1Description: Datasheet; ComponentLink1URL: http://www.seielect.com/catalog/SEI-CSR_CSRN.pdf; ComponentLink2Description: Digi-Key Listing; ComponentLink2URL: https://www.digikey.com/product-detail/en/stackpole-electronics-inc/CSR0603FKR250/CSR0603FKR250TR-ND/1742486; Tolerance: 1%; Price: 0.064; Device Package: 0603 (1608 Metric)
footprint STACKPOLE CSR0603
pins: 1, 2